# EAGLE library part 691305540006 (library ds_con)
WR-TBL Serie 3055 - 5.08 mm - PCB Header Horizontal Entry with Plastic Latches KIND PROPERTIES Pitch 5.08 mm MATERIAL PROPERTIES Insulator Material PA66 Insulator Flammability Rating UL94 V-0 Insulator Color Green Terminal Material Copper Alloy Terminal Plating Tin-plated surface GENERAL INFORMATION Operating Temperature -40 up to +105 °C ELECTRICAL PROPERTIES IR UL 16 A Working Voltage [UL] 300 V (AC) Withstanding Voltage [UL] 2500 V (AC) Contact Resistance [UL] 20 mΩ CERTIFICATION UL Approval E315414 <https://www.we-online.com/catalog/media/o135351v209%20Family_WR-TBL3_6913055400xx.jpg> Details see: https://www.we-online.com/catalog/en/TBL_5_08_3055_6913055400XX/ Updated by Ella Wu 2019-12-30 2022(C) Wurth Elektronik
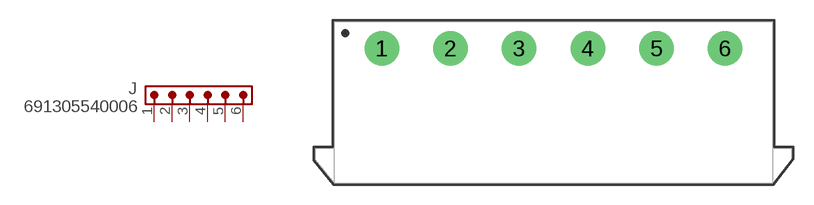
[diagram p30: symbol with the pads of 691305540006; footprint 691305540006]

Designator prefix J

## 691305540006 (DATASHEET: https://www.we-online.com/redexpert/spec/691305540006?ae; DESCRIPTION: -40℃~+105℃ 1 5.08mm 6 Green Straight Pin Plugin,P=5.08mm Pluggable System Terminal Block ROHS; LCSC_PART: C6826290; MANUFACTURER: Würth Elektronik; MPN: 691305540006; ROHS: YES; VALUE: 691305540006)  [691305540006]
1  1  pas
2  2  pas
3  3  pas
4  4  pas
5  5  pas
6  6  pas

## Footprint 691305540006 (pad centres in mm)
WR-TBL Serie 3055 - 5.08 mm - PCB Header Horizontal Entry with Plastic Latches Max Height = 8.6mm , Pitch 5.08mm , 6pins
drill 1.7: 1 -12.7,0; 2 -7.62,0; 3 -2.54,0; 4 2.54,0; 5 7.62,0; 6 12.7,0